# Altium schematic symbol library EEPROM.SchLib: 3 symbols
Pins are listed as number, name and electrical type; pins without a type are passive.

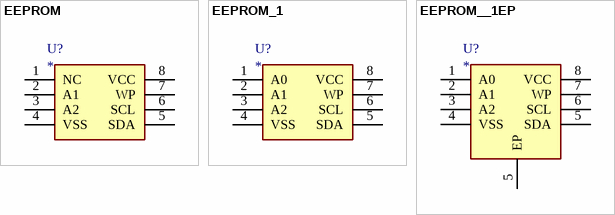
[diagram p0: symbols EEPROM to EEPROM__1EP]

## EEPROM
designator U?
datasheet: http://ww1.microchip.com/downloads/en/DeviceDoc/20001203U.pdf
footprint SOIC 3.90x4.90x1.75 - 8N (SN) - duplicate
footprint TDFN 2x3x0.75 - 8N (MN)
pins: 1 NC, 2 A1, 3 A2, 4 VSS (power), 5 SDA, 6 SCL, 7 WP, 8 VCC (power)

## EEPROM_1
designator U?
datasheet: https://ww1.microchip.com/downloads/en/DeviceDoc/20005286A.pdf; ComponentLink1Description: digikey; ComponentLink1URL: https://www.digikey.es/es/products/detail/microchip-technology/24AA044-I-SN/4842793
pins: 1 A0, 2 A1, 3 A2, 4 VSS (power), 5 SDA, 6 SCL, 7 WP, 8 VCC (power)

## EEPROM__1EP
designator U?
datasheet: https://ww1.microchip.com/downloads/en/DeviceDoc/20005286A.pdf; ComponentLink1Description: digikey; ComponentLink1URL: https://www.digikey.es/es/products/detail/microchip-technology/24AA044-I-SN/4842793
pins: 1 A0, 2 A1, 3 A2, 4 VSS (power), 5 SDA, 5 EP, 6 SCL, 7 WP, 8 VCC (power)